# Altium footprint library CAP-1210-0.95MM.PcbLib: 1 footprints
Each footprint in its own frame and in the unit in brackets; x right, y up, seen from the top. Pads: shape width x height; smd on the part's side, far side on the other; paste and mask are expansions set on the pad; w line width, h text height; cw(c..) or ccw(c..) is an arc to the next point about the centre after c.
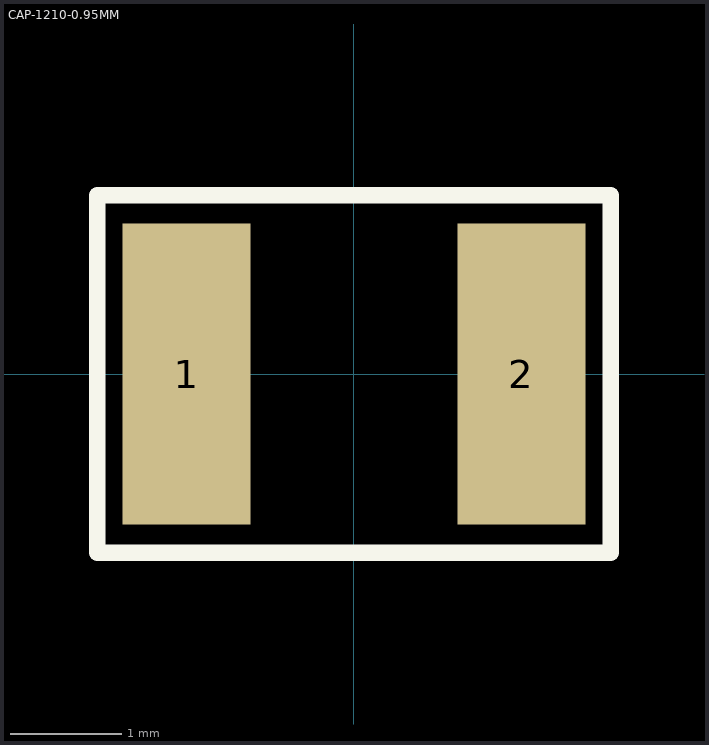
[diagram p0: the footprint, top view; thin cyan lines are the x and y axes]

## CAP-1210-0.95MM [mm] "Standard 1210 capacitor, Height 0.95mm"
height 0.95
pads (2):
  rect 1.15x2.7 smd: 1(-1.5,0) 2(1.5,0)
Top Overlay:
  lines w0.15: -2.3,-1.6 2.3,-1.6 2.3,1.6 -2.3,1.6 -2.3,-1.6
Top Assembly:
  lines w0.1: -2.3,-1.6 2.3,-1.6 2.3,1.6 -2.3,1.6 -2.3,-1.6
Top Courtyard:
  lines w0.1: -2.3,-1.6 2.3,-1.6 2.3,1.6 -2.3,1.6 -2.3,-1.6
Top Designator:
  text ".Designator" at -5,-0.332 h1
3D body "Ceramic_Capacitor_1210_h38mil.STEP": height 0.96, standoff 0.01, extent -1.6,-1.25 1.6,1.25